# Altium footprint library RESC305X170X84L38N.PcbLib: 1 footprints
Each footprint in its own frame and in the unit in brackets; x right, y up, seen from the top. Pads: shape width x height; smd on the part's side, far side on the other; paste and mask are expansions set on the pad; w line width, h text height; cw(c..) or ccw(c..) is an arc to the next point about the centre after c.
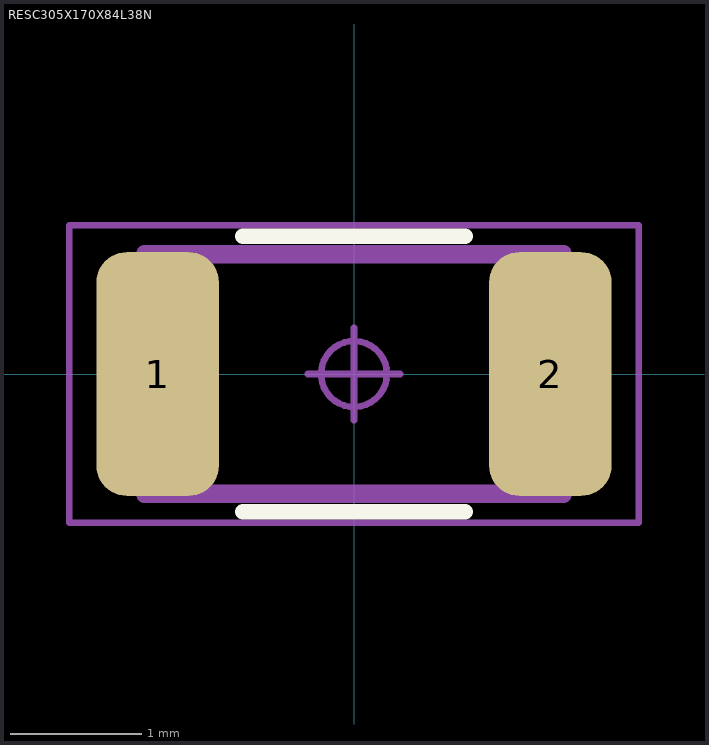
[diagram p0: the footprint, top view; thin cyan lines are the x and y axes]

## RESC305X170X84L38N [mm] "Resistor, Chip; 3.05 mm L X 1.70 mm W X 0.84 mm H body"
height 0.84
pads (2):
  rrect49% 0.93x1.85 smd: 1(-1.49,0) 2(1.49,0)
Top Overlay:
  lines w0.12: -0.845,-1.045 0.845,-1.045 ; -0.845,1.045 0.845,1.045
Mechanical 11:
  lines w0.12: -1.59,-0.92 -1.59,0.92 1.59,0.92 1.59,-0.92 -1.59,-0.92
Mechanical 12:
  lines w0.025: -1.525,-0.85 -1.145,-0.85 -1.145,0.85 -1.525,0.85 ; -1.525,-0.85 -1.525,0.85 ; -1.525,-0.85 -1.525,0.85 ; -1.525,-0.85 1.525,-0.85 ; -1.525,0.85 1.525,0.85 ; 1.525,-0.85 1.525,0.85 ; 1.525,-0.85 1.145,-0.85 1.145,0.85 1.525,0.85 ; 1.525,-0.85 1.525,0.85
Mechanical 15:
  circle w0.05: c0,0 r0.25
  lines w0.05: -0.35,0 0.35,0 ; 0,-0.35 0,0.35 ; -2.16,-1.13 -2.16,1.13 2.16,1.13 2.16,-1.13 -2.16,-1.13
Mechanical 16:
  text ".Designator" at 0,0 h1.2
3D body: height 0.84, standoff 0, extent -1.525,-0.85 1.525,0.85